# EAGLE library part DAC8574 (library texas-msp)
The DAC8574 is a low-power, quad channel, 16-bit buffered voltage output DAC. Its on-chip precision output amplifier allows rail-to-rail output swing to be achieved. The DAC8574 utilizes an I2C compatible two wire serial interface supporting high-speed interface mode with address support of up to sixteen DAC8574s for a total of 64 channels on the bus.
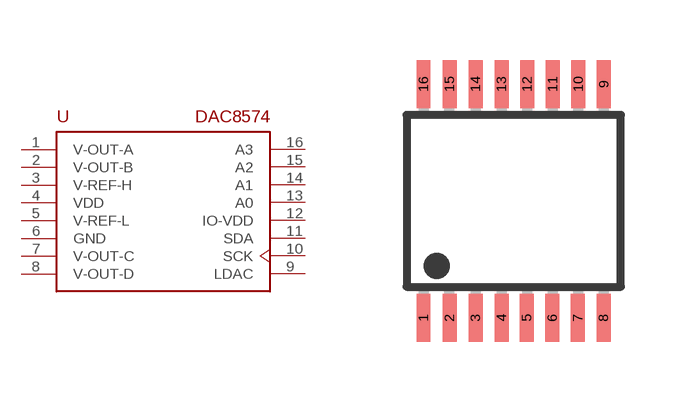
[diagram p3: symbol with the pads of TSSOP16; footprint TSSOP16]

Designator prefix U

## DAC8574  [TSSOP16]
1  V-OUT-A  out
2  V-OUT-B  out
3  V-REF-H  in
4  VDD  pwr
5  V-REF-L  in
6  GND  pwr
7  V-OUT-C  out
8  V-OUT-D  out
9  LDAC  in
10  SCK
11  SDA
12  IO-VDD  pwr
13  A0  in
14  A1  in
15  A2  in
16  A3  in

## Footprint TSSOP16 (pad centres in mm)
Thin Shrink Small Outline Package package type ST
smd 0.35 x 1.2: 1 -0.975,-2.925; 2 -0.325,-2.925; 3 0.325,-2.925; 4 0.975,-2.925; 5 1.605,-2.925; 6 2.245,-2.925; 7 2.885,-2.925; 8 3.525,-2.925; 9 3.535,2.925; 10 2.895,2.925; 11 2.255,2.925; 12 1.615,2.925; 13 0.975,2.925; 14 0.325,2.925; 15 -0.325,2.925; 16 -0.975,2.925